# Altium footprint library Seeed-OPL-Resistor.PCBLIB: 55 footprints (part 3 of 4)
Each footprint in its own frame and in the unit in brackets; x right, y up, seen from the top. Pads: shape width x height; smd on the part's side, far side on the other; paste and mask are expansions set on the pad; w line width, h text height; cw(c..) or ccw(c..) is an arc to the next point about the centre after c.
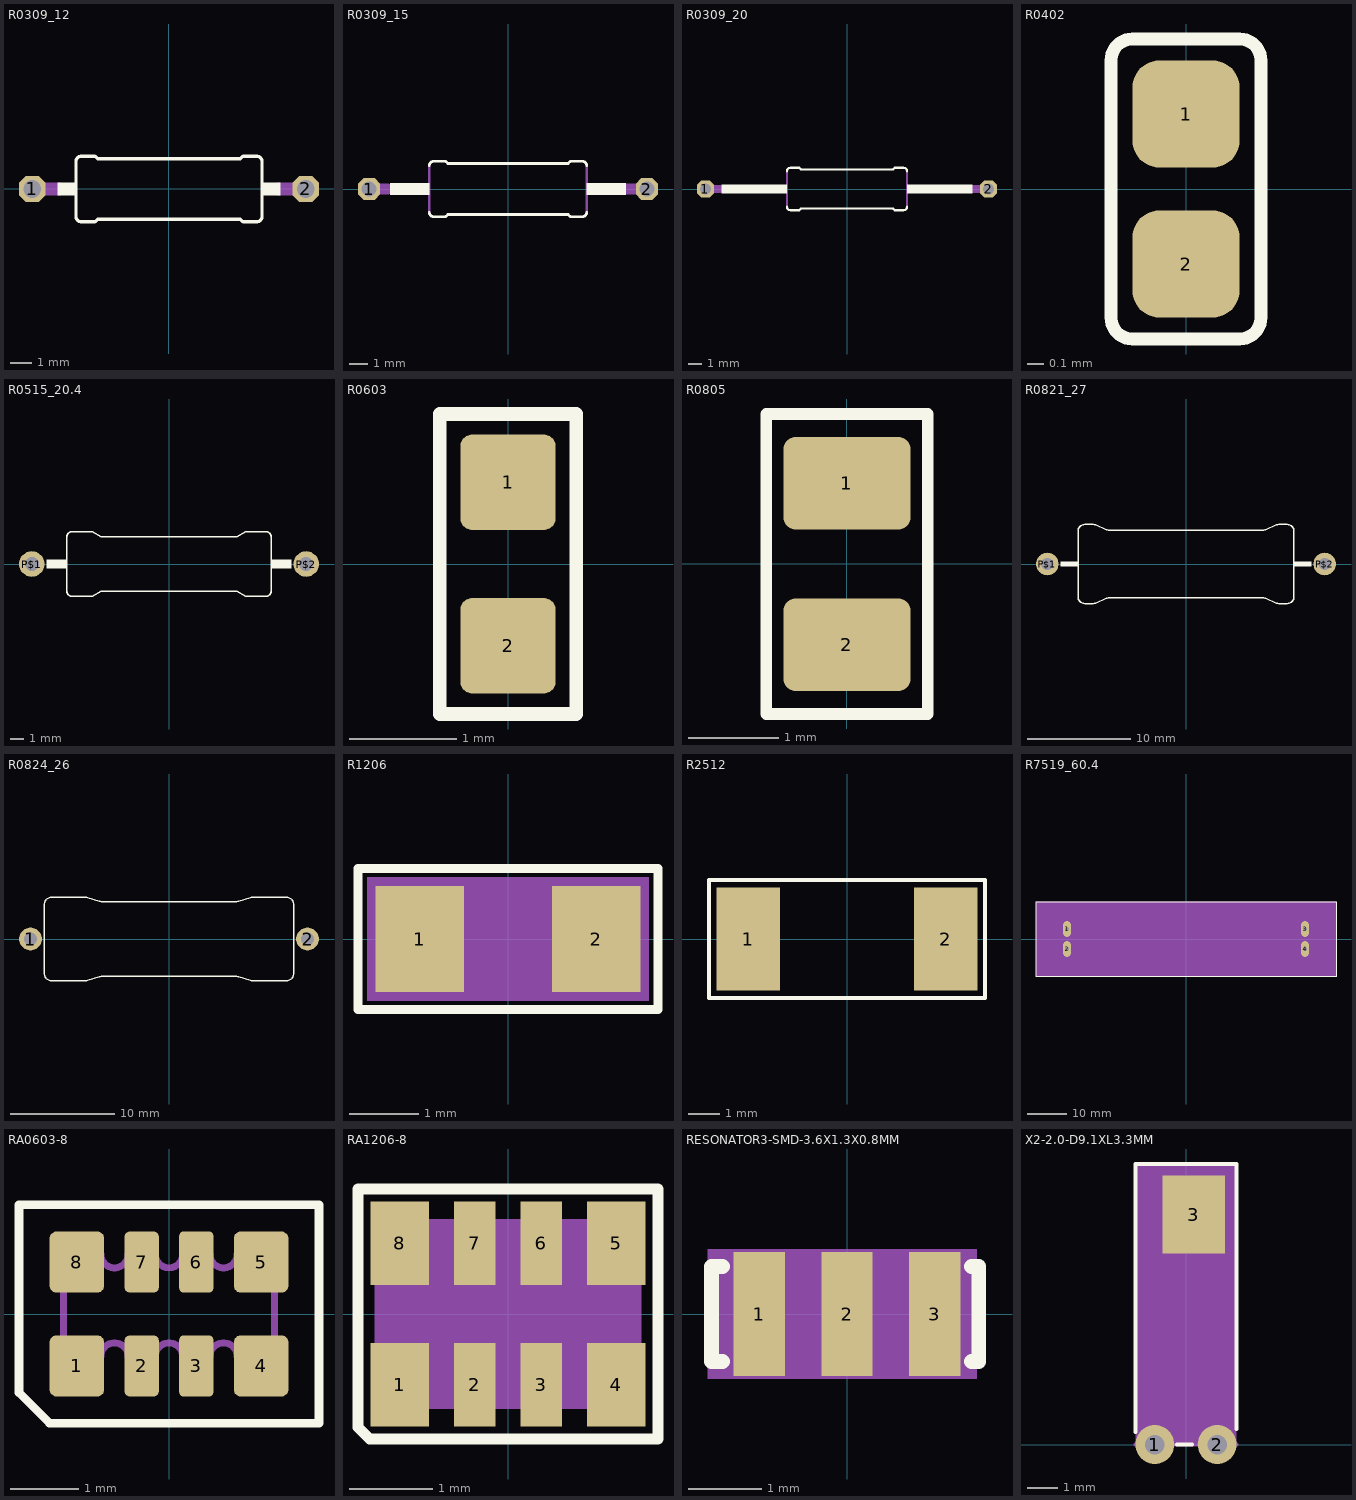
[diagram p2: the footprints below, top view; thin cyan lines are the x and y axes]

## R0309_12 [mil]
pads (2):
  oct 48x48 hole 32: 1(-250,0) 2(250,0)
Top Overlay:
  rectangle: 170,-12 204,12
  rectangle: -204,-12 -170,12
  lines w6: -170,-50 ccw(c-160,-50) -160,-60 -135,-60 -130,-55 130,-55 135,-60 160,-60 ccw(c160,-50) 170,-50 170,50 ccw(c160,50) 160,60 135,60 130,55 -130,55 -135,60 -160,60 ccw(c-160,50) -170,50 -170,-50
Mechanical 16:
  lines w24: -250,0 -200,0 ; 200,0 250,0

## R0309_15 [mil]
pads (2):
  oct 48x48 hole 32: 1(-300,0) 2(300,0)
Top Overlay:
  rectangle: -255,-12.5 -170,12.5
  rectangle: 170,-12.5 255,12.5
  lines w6: -170,-50 ccw(c-160,-50) -160,-60 -135,-60 -130,-55 130,-55 135,-60 160,-60 ccw(c160,-50) 170,-50 ; -170,50 cw(c-160,50) -160,60 -135,60 -130,55 130,55 135,60 160,60 cw(c160,50) 170,50
Mechanical 16:
  lines w6: -170,-50 -170,50 ; 170,-50 170,50
  lines w24: -300,0 -260,0 ; 255,0 300,0

## R0309_20 [mil]
pads (2):
  oct 48x48 hole 32: 1(-400,0) 2(400,0)
Top Overlay:
  rectangle: -355,-12.5 -170,12.5
  rectangle: 170,-12.5 355,12.5
  lines w6: -170,-50 ccw(c-160,-50) -160,-60 -135,-60 -130,-55 130,-55 135,-60 160,-60 ccw(c160,-50) 170,-50 ; -170,50 cw(c-160,50) -160,60 -135,60 -130,55 130,55 135,60 160,60 cw(c160,50) 170,50
Mechanical 16:
  lines w6: -170,-50 -170,50 ; 170,-50 170,50
  lines w24: -400,0 -360,0 ; 355,0 400,0

## R0402 [mil]
pads (2):
  rrect50% 25x25 smd: 1(0,17.5) 2(0,-17.5)
Top Overlay:
  lines w3: -17.5,-30 ccw(c-12.5,-30) -12.5,-35 12.5,-35 ccw(c12.5,-30) 17.5,-30 17.5,30 ccw(c12.5,30) 12.5,35 -12.5,35 ccw(c-12.5,30) -17.5,30 -17.5,-30

## R0515_20.4 [mil]
pads (2):
  round 75 hole 41: P$1(-403,0) P$2(403,0)
Top Overlay:
  rectangle: -360,-12.5 -300,12.5
  rectangle: 300,-12.5 360,12.5
  lines w5: -300,-80 ccw(c-285,-80) -285,-95 -225,-95 -200,-80 200,-80 225,-95 285,-95 ccw(c285,-80) 300,-80 300,80 ccw(c285,80) 285,95 225,95 200,80 -200,80 -225,95 -285,95 ccw(c-285,80) -300,80 -300,-80

## R0603 [mil]
pads (2):
  rrect25% 35x35 smd: 1(0,30) 2(0,-30)
Top Overlay:
  lines w5: -25,-55 25,-55 25,55 -25,55 -25,-55

## R0805 [mil]
pads (2):
  rrect25% 55x40 smd: 1(0,35) 2(0,-35)
Top Overlay:
  lines w5: -35,-65 35,-65 35,65 -35,65 -35,-65

## R0821_27 [mil]
pads (2):
  round 86.61 hole 47.24: P$1(-531.5,0) P$2(531.5,0)
Top Overlay:
  rectangle: 415,-10 480,10
  rectangle: -480,-10 -415,10
  lines w5: -475,0 -415,0 ; -413.39,-126.57 ccw(c-388.39,-126.57) -388.39,-151.57 -355.18,-151.57 ccw(c-355.16,-126.59) -345.25,-149.52 -304.75,-131.98 cw(c-294.81,-154.91) -294.82,-129.92 294.82,-129.92 cw(c294.81,-154.91) 304.75,-131.98 345.25,-149.52 ccw(c355.16,-126.59) 355.18,-151.57 388.39,-151.57 ccw(c388.39,-126.57) 413.39,-126.57 413.39,126.57 ccw(c388.39,126.57) 388.39,151.57 355.18,151.57 ccw(c355.16,126.59) 345.25,149.52 304.75,131.98 cw(c294.81,154.91) 294.82,129.92 -294.82,129.92 cw(c-294.81,154.91) -304.75,131.98 -345.25,149.52 ccw(c-355.16,126.59) -355.18,151.57 -388.39,151.57 ccw(c-388.39,126.57) -413.39,126.57 -413.39,-126.57

## R0824_26 [mil]
pads (2):
  round 87 hole 50: 1(-525,0) 2(525,0)
Top Overlay:
  lines w5: -472,-133 ccw(c-447,-133) -447,-158 -315.76,-158 ccw(c-315.78,-133.01) -308.41,-156.89 -263.59,-143.11 cw(c-256.22,-166.99) -256.24,-142 256.24,-142 cw(c256.22,-166.99) 263.59,-143.11 308.41,-156.89 ccw(c315.78,-133.01) 315.76,-158 447,-158 ccw(c447,-133) 472,-133 472,133 ccw(c447,133) 447,158 315.76,158 ccw(c315.78,133.01) 308.41,156.89 263.59,143.11 cw(c256.22,166.99) 256.24,142 -256.24,142 cw(c-256.22,166.99) -263.59,143.11 -308.41,156.89 ccw(c-315.78,133.01) -315.76,158 -447,158 ccw(c-447,133) -472,133 -472,-133

## R1206 [mil]
pads (2):
  rect 50x60 smd: 1(-50,0) 2(50,0)
Top Overlay:
  lines w5: -85,-40 85,-40 85,40 -85,40 -85,-40
Mechanical 27:
  rectangle: -80,-35 80,35

## R2512 [mil]
pads (2):
  rect 80x130 smd: 1(-125,0) 2(125,0)
Top Overlay:
  lines w5: -175,-75 175,-75 175,75 -175,75 -175,-75

## R7519_60.4 [mil]
pads (4):
  oval 80x160 hole 40: 1(-1190,100) 2(-1190,-100) 3(1190,100) 4(1190,-100)
Top Overlay:
  lines w5: -1500,-375 1500,-375 1500,375 -1500,375 -1500,-375
Mechanical 11:
  lines w40: -1190,-140 -1190,-60 ; -1190,60 -1190,140 ; 1190,-140 1190,-60 ; 1190,60 1190,140
Mechanical 27:
  rectangle: -1500,-375 1500,375

## RA0603-8 [mil]
pads (8):
  rrect25% 31.5x35.43 smd: 1(-53.15,-30) 4(53.15,-30) 5(53.15,30) 8(-53.15,30)
  rrect25% 19.69x35.04 smd: 2(-15.75,-30) 7(-15.75,30)
  rrect25% 19.69x35.43 smd: 3(15.75,-30) 6(15.75,30)
Top Overlay:
  lines w5: -86.61,-45.39 -69.01,-62.99 86.61,-62.99 86.61,62.99 -86.61,62.99 -86.61,-45.39
Mechanical 16:
  lines w4: -61.02,-24.53 -61.02,34.53 -39.37,34.53 ccw(c-31.5,34.53) -23.62,34.53 -7.87,34.53 ccw(c0,34.53) 7.87,34.53 23.62,34.53 ccw(c31.5,34.53) 39.37,34.53 61.02,34.53 61.02,-24.53 39.37,-24.53 ccw(c31.5,-24.53) 23.62,-24.53 7.87,-24.53 ccw(c0,-24.53) -7.87,-24.53 -23.62,-24.53 ccw(c-31.5,-24.53) -39.37,-24.53 -61.02,-24.53

## RA1206-8 [mm]
pads (8):
  rect 0.7x1 smd: 1(-1.3,-0.85) 4(1.3,-0.85) 5(1.3,0.85) 8(-1.3,0.85)
  rect 0.5x1 smd: 2(-0.4,-0.85) 3(0.4,-0.85) 6(0.4,0.85) 7(-0.4,0.85)
Top Overlay:
  lines w0.127: -1.8,-1.359 -1.659,-1.5 1.8,-1.5 1.8,1.5 -1.8,1.5 -1.8,-1.359
Mechanical 16:
  lines w0.102: -1.55,-0.75 -1.55,0.75 -1,0.75 ccw(c-0.8,0.75) -0.6,0.75 -0.2,0.75 ccw(c0,0.75) 0.2,0.75 0.6,0.75 ccw(c0.8,0.75) 1,0.75 1.55,0.75 1.55,-0.75 1,-0.75 ccw(c0.8,-0.75) 0.6,-0.75 0.2,-0.75 ccw(c0,-0.75) -0.2,-0.75 -0.6,-0.75 ccw(c-0.8,-0.75) -1,-0.75 -1.55,-0.75
Mechanical 27:
  rectangle: -1.587,-1.143 1.587,1.143

## RESONATOR3-SMD-3.6X1.3X0.8MM [mil]
pads (3):
  rect 27.56x66.93 smd: 1(-47.24,0) 2(0,0) 3(47.24,0)
Top Overlay:
  lines w8: -66.93,-25.59 -72.83,-25.59 -72.83,25.59 -66.93,25.59 ; 66.93,-25.59 70.87,-25.59 70.87,25.59 66.93,25.59
Mechanical 16:
  lines w5: -62.99,-25.59 62.99,-25.59 62.99,25.59 -62.99,25.59 -62.99,-25.59
Mechanical 27:
  rectangle: -75,-35 70,35

## X2-2.0-D9.1XL3.3MM [mil]
pads (3):
  round 50 hole 25: 1(-40,0) 2(40,0)
  rect 80x100 smd: 3(10,295)
Top Overlay:
  lines w5: -65,15.75 -65,360 65,360 65,19.69 ; -11.81,0 7.87,0
Mechanical 16:
  lines w5: -65,0 65,0
Mechanical 27:
  rectangle: -65,0 65,360